# EAGLE library part MAX11115AUT+T (library SamacSys_Parts)
ADC Source: Datasheet <https://componentsearchengine.com/Datasheets/1/MAX11115AUT T.pdf>
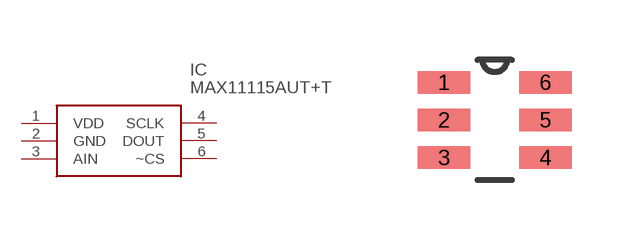
[diagram p0: symbol with the pads of SOT95P280X145-6N; footprint SOT95P280X145-6N]

Designator prefix IC

## MAX11115AUT+T (Description: ADC; Height: mm; Manufacturer_Name: Maxim Integrated; Manufacturer_Part_Number: MAX11115AUT+T; Mouser_Part_Number: 700-MAX11115AUT+T; Mouser_Price-Stock: https://www.mouser.com/Search/Refine.aspx?Keyword=700-MAX11115AUT%2BT)  [SOT95P280X145-6N]
1  VDD
2  GND
3  AIN
4  SCLK
5  DOUT
6  ~CS

## Footprint SOT95P280X145-6N (pad centres in mm)
SOT95P280X145-6N
smd 1.321 x 0.559: 1 -1.27,0.94; 2 -1.27,0; 3 -1.27,-0.94; 4 1.27,-0.94; 5 1.27,0; 6 1.27,0.94